# Altium schematic symbol library UD2 CPLD.SCHLIB: 39 symbols
Pins are listed as number, name and electrical type; pins without a type are passive.

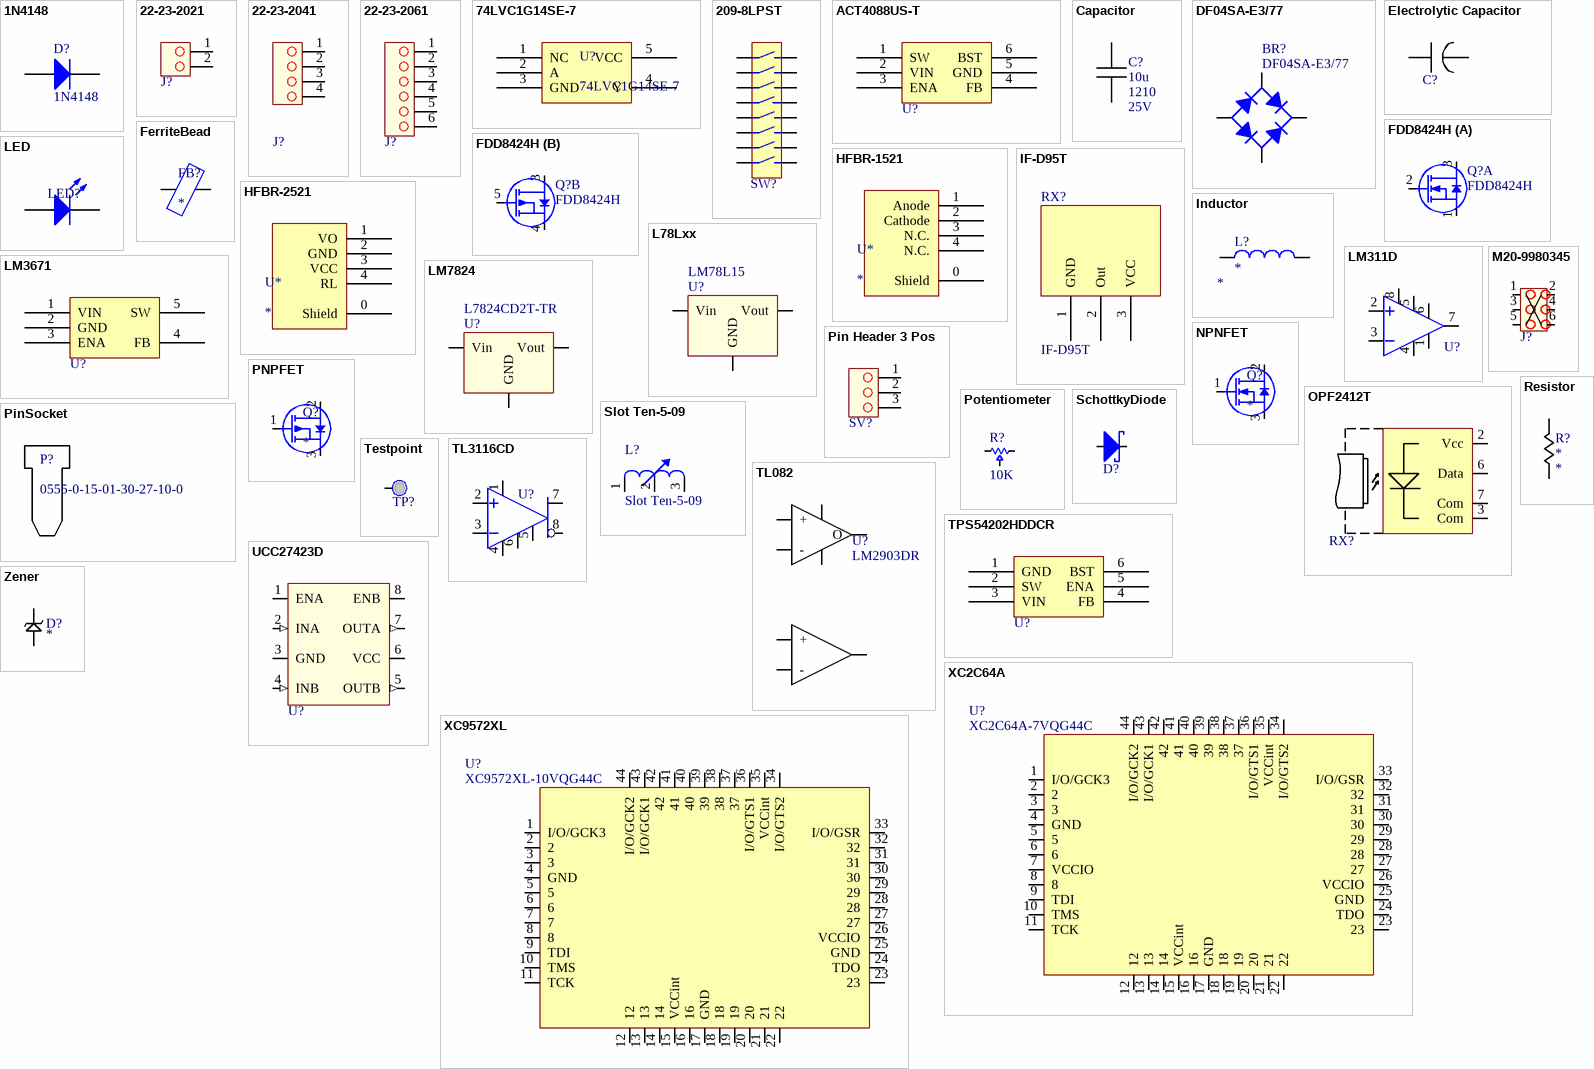
[diagram p0: symbols 1N4148 to Zener]

## 1N4148
designator D?
footprint MicroMELF (MELF Diode, 2-Leads, Body 1.9x1.2mm, IPC Medium Density)
pins: A, K

## 22-23-2021
designator J?  (value not drawn)
Pin Header, 2 Position, Locking, .1 Centers
footprint 22-23-2021
pins: 1, 2

## 22-23-2041
designator J?  (value not drawn)
Pin Header, 4 Position, Locking, .1 Centers
footprint 22-23-2061
footprint 22-23-2041
pins: 1, 2, 3, 4

## 22-23-2061
designator J?  (value not drawn)
Pin Header, 6 Position, Locking, .1 Centers
footprint 22-23-2061
pins: 1, 2, 3, 4, 5, 6

## 74LVC1G14SE-7
designator U?
Inverter IC 1 Channel Schmitt Trigger SOT-353; Digikey Part: 74LVC1G14SE-7CT-ND; Mouser Part: 621-74LVC1G14SE-7
footprint SOT23-5
pins: 1 NC, 2 A, 3 GND, 4 Y, 5 VCC

## 209-8LPST
designator SW?  (value not drawn)
footprint DIP16
footprint 218-8LP
pins: 1, 2, 3, 4, 5, 6, 7, 8, 9, 10, 11, 12, 13, 14, 15, 16

## ACT4088US-T
designator U?  (value not drawn)
1.2A Variable Ouput Switching Regulator
footprint SOT23-6
pins: 1 SW, 2 VIN, 3 ENA, 4 FB, 5 GND, 6 BST

## Capacitor
designator C?, comment Capacitance: 10u  package: 1210  voltage: 25V  (hidden comment: 885012209028)
tolerance: *; type: *; material: *
footprint 0805C
footprint 1210C (Chip Capacitor, 2-Leads, Body 3.2x2.5mm, IPC Medium Density)
footprint 1206C
pins: 1, 2

## DF04SA-E3/77
designator BR?
Bridge Rectifier, 1 Amp, 400V, SMD
footprint DFS
pins: 1 K, 2 A, 3 AC, 4 AC

## Electrolytic Capacitor
designator C?  (value not drawn)
footprint 12.5mm lytic
footprint 6.3MM LYTIC
pins: 1, 2

## FDD8424H
designator Q?
Mosfet, NP CH, 40V, -40V, 20A
footprint TO-252 (TO-252 PACKAGE)
part A pins: 1 S1, 2 G1, 3 D1/D2
part B pins: 3 D1/D2, 4 S2, 5 G2

## FerriteBead
designator FB?
Ferrite Bead
footprint 0805FB
pins: 1, 2

## HFBR-1521
designator U*
footprint HFBR-0500
pins: 0 Shield, 1 Anode, 2 Cathode, 3 N.C., 4 N.C.

## HFBR-2521
designator U*
footprint HFBR-0500
pins: 0 Shield, 1 VO, 2 GND, 3 VCC, 4 RL

## IF-D95T
designator RX?
footprint FiberRX
pins: 1 GND, 2 Out, 3 VCC

## Inductor
designator L?
Inductance: *
footprint 1210L
footprint SRN4012T
pins: 1, 2

## L78Lxx
designator U?, comment LM78L15
footprint TO-92-SW
pins: 1 Vout, 2 GND, 3 Vin

## LED
designator LED?  (value not drawn)
footprint 0805LED
pins: 1 A, 2 K

## LM311D
designator U?  (value not drawn)
COMPARATOR, SINGLE CH, 30V, SOIC-8
footprint SOIC-8 (SOIC 8 PACKAGE)
pins: 1 OUT, 2 IN+, 3 IN-, 4 VCC-, 5 BAL, 6 STRB, 7 COL OUT, 8 VCC+

## LM3671
designator U?, comment LM3671MFX-3.3/NOPB  (value not drawn)
3.3V  600mA Fixed Ouput Switching Regulator
footprint SOT23-5
pins: 1 VIN, 2 GND, 3 ENA, 4 FB, 5 SW

## LM7824
designator U?, comment L7824CD2T-TR
footprint D2PAK alt
pins: 1 Vout, 2 GND, 3 Vin

## M20-9980345
designator J?  (value not drawn)
Pin Header, 2 x 3 Position, .1 Centers
footprint 2X3 Pin Header (Pin Header, 2 X 3 Pos, 0.1 Centers)
pins: 1, 2, 3, 4, 5, 6

## NPNFET
designator Q?
footprint SOT23-3 (SOT23, 3-Leads, Body 2.90x2.45mm, Pitch 0.95mm, IPC Medium Density)
pins: 1 G, 2 D, 3 S

## OPF2412T
designator RX?  (value not drawn)
Fiberoptic Receiver, High Speed, 25mA
footprint OPF1412T (Fiberoptic Transmitter, High Speed, 100mA)
pins: 1 hidden to GND, 2 Vcc, 3 Com, 4 hidden to GND, 5 hidden to GND, 6 Data, 7 Com, 8 hidden to GND

## Pin Header 3 Pos
designator SV?  (value not drawn)
Pin Header, 3 Position,  .1 Centers
footprint Pin Header, 3 Pos (Pin Header Pads, 3 Position, 0.1 centers)
pins: 1, 2, 3

## PinSocket
designator P?, comment 0555-0-15-01-30-27-10-0  (mechanical)
Digikey Part: ED5042-ND; Mouser Part: 575-055500

## PNPFET
designator Q?
footprint D2PAK alt
footprint SOT23-3 (SOT23, 3-Leads, Body 2.90x2.45mm, Pitch 0.95mm, IPC Medium Density)
pins: 1 G, 2 D, 3 S

## Potentiometer
designator R?  value 10K  (hidden comment: *)
footprint 3mmTrimmer
footprint Bourns3296
pins: 1, 2, 3

## Resistor
designator R?
Power: *; Tolerance: *; Resistance: *; Package: *
footprint 1206R
footprint 1210R
footprint 0805R
footprint 0.5WTHResistor
footprint 2WTHResistor
pins: 1, 2

## SchottkyDiode
designator D?
Diode, Schottky
footprint SOD-123
pins: A, K

## Slot Ten-5-09
designator L?
footprint Slot Ten (Slot Ten Tunable Inductor, Style 5, Coil Craft)
pins: 0 hidden to GND, 1, 2, 3

## Testpoint
designator TP?  (value not drawn)  (no BOM)
Digikey Part: *; Mouser Part: *
footprint testpoint (.1" header test point)
footprint Keystone5002 (Keystone 5002 White Testpoint)
footprint Keystone5001 (Keystone 5001 Black Testpoint)
footprint Keystone5016 (Keystone 5016 Green Testpoint)
footprint Keystone5000 (Keystone 5000 Red Testpoint)
footprint Keystone5003 (Keystone 5003 Orange Testpoint)
footprint Keystone5004 (Keystone 5004 Yellow Testpoint)
pins: 1

## TL082
designator U?, comment LM2903DR
footprint SOIC-8 (Tall SO-8)
pins: 1 O, 2 -, 3 +, 4 Vss, 5 +, 6 -, 7 O, 8 Vcc

## TL3116CD
designator U?  (value not drawn)
COMPARATOR, HIGH SPEED, 10V, SOIC-8
footprint SOIC-8 (SOIC 8 PACKAGE)
pins: 1 VCC+, 2 IN+, 3 IN-, 4 VCC-, 5 EN, 6 GND, 7 Q OUT, 8 Q/ OUT

## TPS54202HDDCR
designator U?  (value not drawn)
Buck Switching Regulator IC Positive Adjustable 0.596V 1 Output 2A SOT-23-6 Thin, TSOT-23-6; Mouser Part: TPS54202HDDCR; Digikey Part: 296-44396-1-ND
footprint SOT23-6
pins: 1 GND, 2 SW, 3 VIN, 4 FB, 5 ENA, 6 BST

## UCC27423D
designator U?  (value not drawn)
Mosfet Driver, Dual-Inverting, SOIC-D; Manufacturer: Texas Instruments; Manf. P/N: UCC27322D
footprint SOIC-8 (SOIC 8 PACKAGE)
pins: 1 ENA (power), 2 INA (in) "IN", 3 GND, 4 INB (in), 5 OUTB (out), 6 VCC, 7 OUTA (out), 8 ENB

## XC2C64A
designator U?, comment XC2C64A-7VQG44C
footprint TQFP44
pins: 1 I/O/GCK3, 2, 3, 4 GND, 5, 6, 7 VCCIO, 8, 9 TDI, 10 TMS, 11 TCK, 12, 13, 14, 15 VCCint, 16, 17 GND, 18, 19, 20, 21, 22, 23, 24 TDO, 25 GND, 26 VCCIO, 27, 28, 29, 30, 31, 32, 33 I/O/GSR, 34 I/O/GTS2, 35 VCCint, 36 I/O/GTS1, 37, 38, 39, 40, 41, 42, 43 I/O/GCK1, 44 I/O/GCK2

## XC9572XL
designator U?, comment XC9572XL-10VQG44C
footprint TQFP44
pins: 1 I/O/GCK3, 2, 3, 4 GND, 5, 6, 7, 8, 9 TDI, 10 TMS, 11 TCK, 12, 13, 14, 15 VCCint, 16, 17 GND, 18, 19, 20, 21, 22, 23, 24 TDO, 25 GND, 26 VCCIO, 27, 28, 29, 30, 31, 32, 33 I/O/GSR, 34 I/O/GTS2, 35 VCCint, 36 I/O/GTS1, 37, 38, 39, 40, 41, 42, 43 I/O/GCK1, 44 I/O/GCK2

## Zener
designator D?
footprint SOD-123
pins: A 1, K 2